# Altium footprint library TEXASINSTRUMENTS_PKG_NS0016A.PcbLib: 1 footprints
Each footprint in its own frame and in the unit in brackets; x right, y up, seen from the top. Pads: shape width x height; smd on the part's side, far side on the other; paste and mask are expansions set on the pad; w line width, h text height; cw(c..) or ccw(c..) is an arc to the next point about the centre after c.
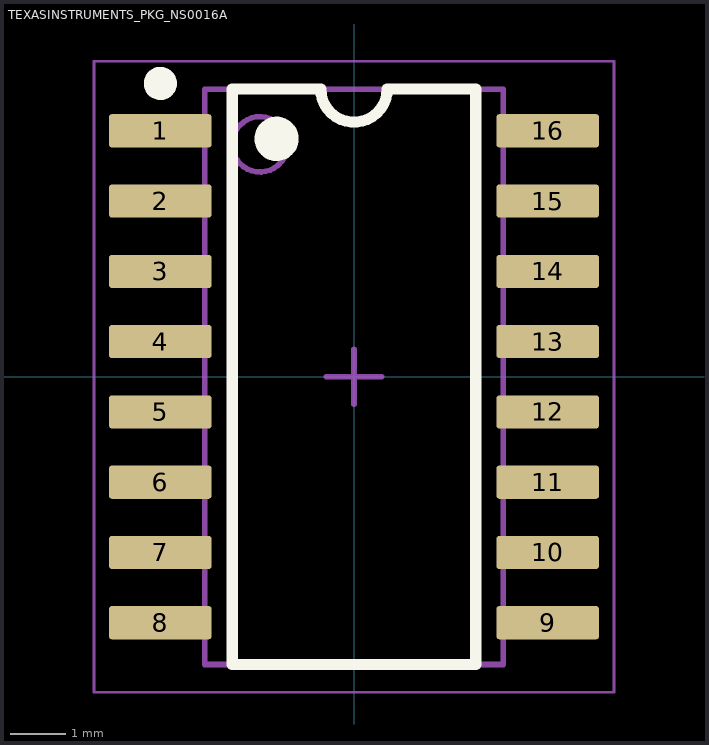
[diagram p0: the footprint, top view; thin cyan lines are the x and y axes]

## TEXASINSTRUMENTS_PKG_NS0016A [mm]
height 2
pads (16):
  rrect16% 1.85x0.6 smd: 1(-3.5,4.445) 2(-3.5,3.175) 3(-3.5,1.905) 4(-3.5,0.635) 5(-3.5,-0.635) 6(-3.5,-1.905) 7(-3.5,-3.175) 8(-3.5,-4.445) 9(3.5,-4.445) 10(3.5,-3.175) 11(3.5,-1.905) 12(3.5,-0.635) 13(3.5,0.635) 14(3.5,1.905) 15(3.5,3.175) 16(3.5,4.445)
Top Overlay:
  circle w0.4: c-1.4,4.3 r0.2
  circle w0.3: c-3.5,5.3 r0.15
  lines w0.2: -2.2,-5.2 2.2,-5.2 2.2,5.2 0.6,5.2 cw(c0,5.2) -0.6,5.2 -2.2,5.2 -2.2,-5.2
Mechanical 13:
  circle w0.1: c-1.7,4.2 r0.5
  lines w0.1: -2.7,-5.2 2.7,-5.2 2.7,5.2 -2.7,5.2 -2.7,-5.2
Mechanical 15:
  lines w0.05: -4.7,-5.7 -4.7,5.7 4.7,5.7 4.7,-5.7 -4.7,-5.7
  lines w0.1: -0.5,0 0.5,0 ; 0,-0.5 0,0.5